# EAGLE library part UCLAMP3312T.TCT (library semtech)
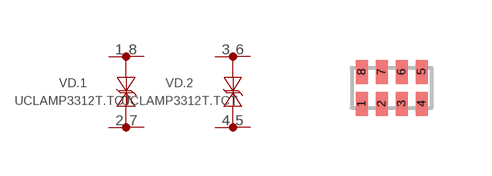
[diagram p0: symbol with the pads of 8-XFDFN; footprint 8-XFDFN]

Designator prefix VD; gates .1=UCLAMP3312T.TCT .2=UCLAMP3312T.TCT

## UCLAMP3312T.TCT  [8-XFDFN]
1  .1:IO1  pas
2  .1:IO2  pas
3  .2:IO1  pas
4  .2:IO2  pas
5  .2:IO  pas
6  .2:IO1  pas
7  .1:IO  pas
8  .1:IO1  pas

## Footprint 8-XFDFN (pad centres in mm)
smd 0.3 x 0.6: 1 -0.75,-0.4; 2 -0.25,-0.4; 3 0.25,-0.4; 4 0.75,-0.4; 5 0.75,0.4; 6 0.25,0.4; 7 -0.25,0.4; 8 -0.75,0.4